# Altium schematic symbol library EVAL.SchLib: 3 symbols
Pins are listed as number, name and electrical type; pins without a type are passive.

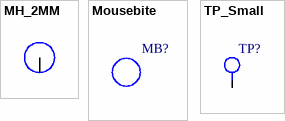
[diagram p0: symbols MH_2MM to TP_Small]

## MH_2MM
designator MH?, comment 2 mm  (value not drawn)
Mounting Hole - 2 mm
footprint MH_2MM (Mounting Hole - 2 mm)
pins: 1

## Mousebite
designator MB?, comment Part Number  (value not drawn)
Mousebite, 0.5 mm hole 5x, 0.3 mm spacing, 1.5 mm tool route; GRAMS Lib Spec: 2.7
footprint MSBITE_1.6mm (Mousebite - 1.6 mm spacing)

## TP_Small
designator TP?  (value not drawn)
Through Hole Test Point - M2
footprint TP_Small_M2
pins: 1